# Altium footprint library SamacSys.PcbLib: 11 footprints
Each footprint in its own frame and in the unit in brackets; x right, y up, seen from the top. Pads: shape width x height; smd on the part's side, far side on the other; paste and mask are expansions set on the pad; w line width, h text height; cw(c..) or ccw(c..) is an arc to the next point about the centre after c.
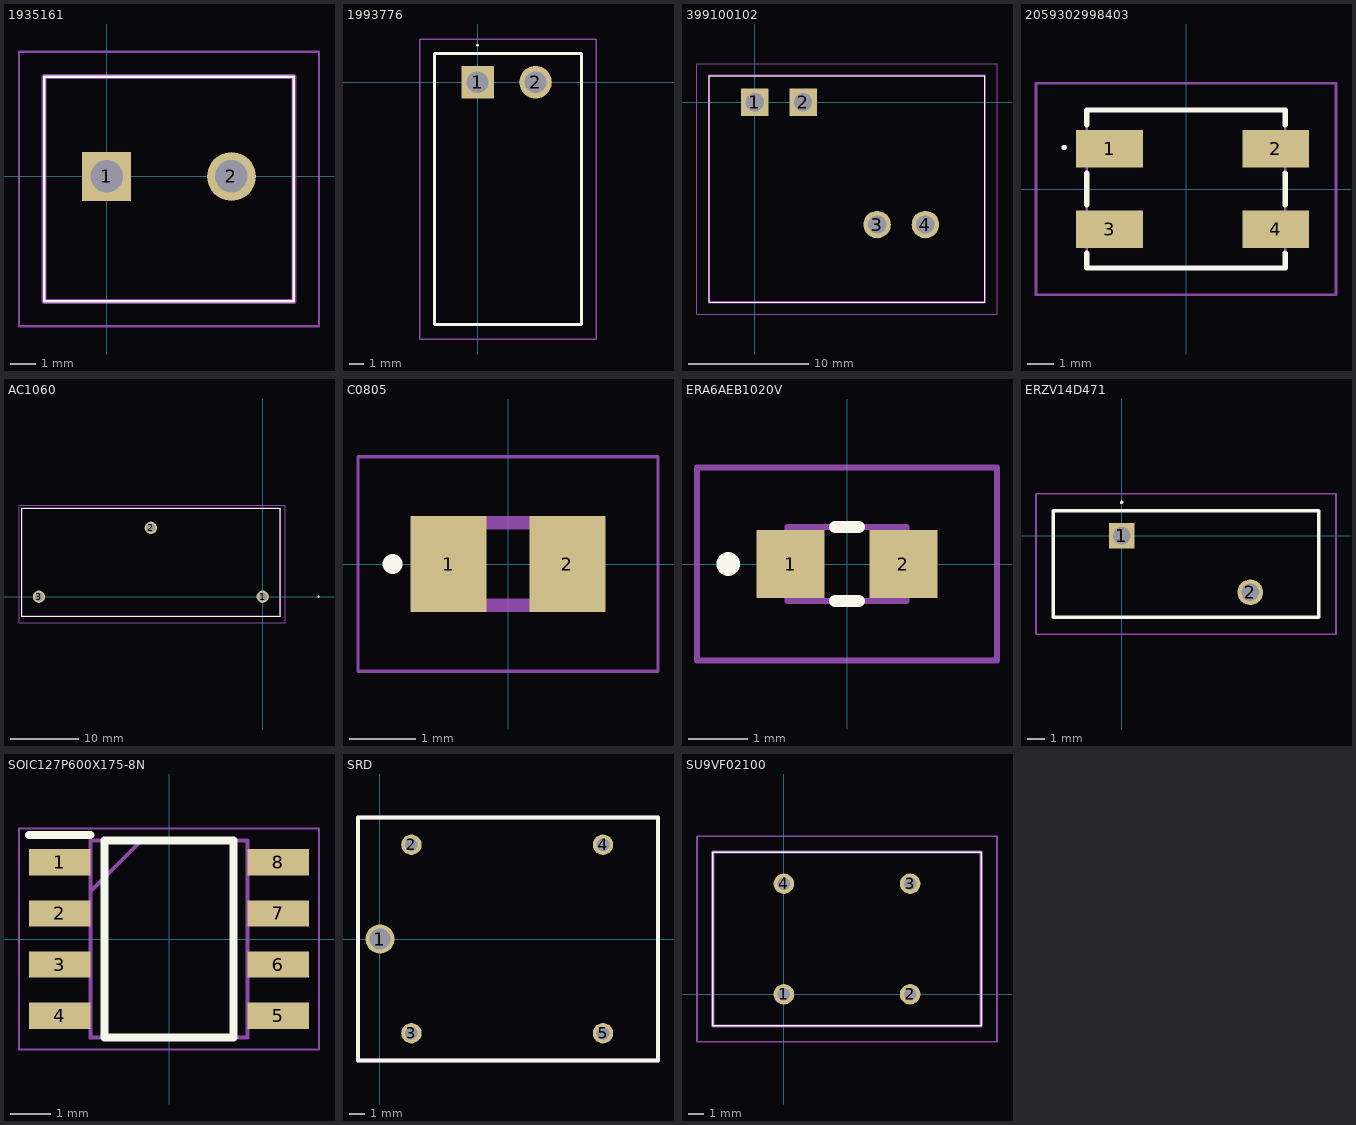
[diagram p0: the footprints below, top view; thin cyan lines are the x and y axes]

## 1935161 [mm]
pads (2):
  rect 1.95x1.95 hole 1.3: 1(0,0)
  round 1.95 hole 1.3: 2(5,0)
Top Overlay:
  lines w0.1: -2.5,-5 7.5,-5 7.5,4 -2.5,4 -2.5,-5
Mechanical 13:
  lines w0.2: -2.5,-5 7.5,-5 7.5,4 -2.5,4 -2.5,-5
Mechanical 15:
  lines w0.1: -3.5,-6 8.5,-6 8.5,5 -3.5,5 -3.5,-6
3D body "1935161.stp": height 12.22, standoff -2.68, extent -2.519,-4.997 8.051,4.003

## 1993776 [mm]
pads (2):
  rect 2.25x2.25 hole 1.5: 1(0,0)
  round 2.25 hole 1.5: 2(4,0)
Top Overlay:
  lines w0.1: 0,2.5 ccw(c0,2.55) 0,2.6 ccw(c0,2.55) 0,2.5
  lines w0.2: -2.98,-16.72 7.18,-16.72 7.18,1.98 -2.98,1.98 -2.98,-16.72
Mechanical 13:
  lines w0.1: -2.98,-16.72 7.18,-16.72 7.18,1.98 -2.98,1.98 -2.98,-16.72
Mechanical 15:
  lines w0.1: -3.98,-17.72 8.18,-17.72 8.18,2.98 -3.98,2.98 -3.98,-17.72
3D body "1993776.stp": height 30.83, standoff -4.92, extent -3.828,-16.723 7.188,1.978

## 399100102 [mm]
pads (4):
  rect 2.28x2.28 hole 1.52: 1(0,0) 2(4.01,0)
  round 2.28 hole 1.52: 3(10.16,-10.16) 4(14.17,-10.16)
Top Overlay:
  lines w0.1: -3.795,-16.61 -3.795,2.19 19.115,2.19 19.115,-16.61 -3.795,-16.61
Mechanical 13:
  lines w0.2: -3.795,-16.61 -3.795,2.19 19.115,2.19 19.115,-16.61 -3.795,-16.61
Mechanical 15:
  lines w0.1: -4.795,-17.61 -4.795,3.19 20.115,3.19 20.115,-17.61 -4.795,-17.61
3D body "39910-0102.stp": height 29.67, standoff -4.11, extent -3.862,-16.608 17.982,2.188

## 2059302998403 [mm]
pads (4):
  rect 2.5x1.4 smd: 1(-2.85,1.5) 2(3.35,1.5) 3(-2.85,-1.5) 4(3.35,-1.5)
Top Overlay:
  lines w0.1: -4.55,1.5 cw(c-4.55,1.55) -4.55,1.6 cw(c-4.55,1.55) -4.55,1.5
  lines w0.2: -3.7,-2.4 -3.7,-2.95 3.7,-2.95 3.7,-2.4 ; -3.7,-0.6 -3.7,0.6 ; -3.7,2.4 -3.7,2.95 3.7,2.95 3.7,2.4 ; 3.7,-0.6 3.7,0.6
Mechanical 13:
  lines w0.1: -3.7,-2.95 -3.7,2.95 3.7,2.95 3.7,-2.95 -3.7,-2.95
Mechanical 15:
  lines w0.1: -5.6,-3.95 -5.6,3.95 5.6,3.95 5.6,-3.95 -5.6,-3.95
3D body "2059-302_998-403.stp": height 2.7, standoff 0, extent -3.92,-2.95 3.93,2.95

## AC1060 [mm]
pads (3):
  round 1.824 hole 1.216: 1(0,0) 2(-16.5,10.16) 3(-33,0)
Top Overlay:
  lines w0.1: -35.55,-2.85 -35.55,13.05 2.55,13.05 2.55,-2.85 -35.55,-2.85
  lines w0.2: 8.2,0 cw(c8.25,0) 8.3,0 ; 8.2,0 ccw(c8.25,0) 8.3,0 ; 8.2,0 cw(c8.25,0) 8.3,0
Mechanical 13:
  lines w0.2: -35.55,-2.85 -35.55,13.05 2.55,13.05 2.55,-2.85 -35.55,-2.85
Mechanical 15:
  lines w0.1: -35.941,-3.81 -35.941,13.462 3.304,13.462 3.304,9.575 3.304,0.625 3.304,-3.81 -35.941,-3.81
3D body "Part1.STEP": height 38.09, standoff -5.99, extent -35.433,-3.454 2.667,12.446

## C0805 [mm]
pads (2):
  rect 1.15x1.45 smd: 1(-0.9,0) 2(0.9,0)
Top Overlay:
  circle w0.2: c-1.75,0 r0.05
Mechanical 13:
  lines w0.2: -1,-0.625 -1,0.625 1,0.625 1,-0.625 -1,-0.625
Mechanical 15:
  lines w0.05: -2.275,-1.625 -2.275,1.625 2.275,1.625 2.275,-1.625 -2.275,-1.625
3D body "C0805C183G4HACTU.stp": height 0.98, standoff 0, extent -1.15,-0.78 1.15,0.77

## ERA6AEB1020V [mm]
pads (2):
  rect 1.15x1.15 smd: 1(-0.95,0) 2(0.95,0)
Top Overlay:
  lines w0.2: -0.2,-0.625 0.2,-0.625 ; -0.2,0.625 0.2,0.625 ; -2,-0.1 ccw(c-2,0) -2,0.1 ccw(c-2,0) -2,-0.1
Mechanical 13:
  lines w0.1: -1,-0.625 -1,0.625 1,0.625 1,-0.625 -1,-0.625
Mechanical 15:
  lines w0.1: -2.525,-1.625 -2.525,1.625 2.525,1.625 2.525,-1.625 -2.525,-1.625
3D body "ERA-6AED102V.stp": height 0.5, standoff 0, extent -1,-0.625 1,0.625

## ERZV14D471 [mm]
pads (2):
  rect 1.5x1.5 hole 1: 1(0,0)
  round 1.5 hole 1: 2(7.5,-3.3)
Top Overlay:
  lines w0.1: 0,1.9 ccw(c0,1.95) 0,2 ccw(c0,1.95) 0,1.9
  lines w0.2: -4,-4.75 -4,1.45 11.5,1.45 11.5,-4.75 -4,-4.75
Mechanical 13:
  lines w0.1: -4,-4.75 -4,1.45 11.5,1.45 11.5,-4.75 -4,-4.75
Mechanical 15:
  lines w0.1: -5,-5.75 -5,2.45 12.5,2.45 12.5,-5.75 -5,-5.75
3D body "ERZ-V14D471.stp": height 18.6, standoff -5, extent -4,-4.75 11.5,1.45

## SOIC127P600X175-8N [mm]
pads (8):
  rect 1.525x0.65 smd: 1(-2.712,1.905) 2(-2.712,0.635) 3(-2.712,-0.635) 4(-2.712,-1.905) 5(2.712,-1.905) 6(2.712,-0.635) 7(2.712,0.635) 8(2.712,1.905)
Top Overlay:
  lines w0.2: -3.475,2.58 -1.95,2.58 ; -1.6,-2.45 1.6,-2.45 1.6,2.45 -1.6,2.45 -1.6,-2.45
Mechanical 13:
  lines w0.1: -1.95,1.18 -0.68,2.45 ; -1.95,-2.45 1.95,-2.45 1.95,2.45 -1.95,2.45 -1.95,-2.45
Mechanical 15:
  lines w0.05: -3.725,-2.75 3.725,-2.75 3.725,2.75 -3.725,2.75 -3.725,-2.75
3D body "NE555DR.stp": height 1.75, standoff 0, extent -3,-2.45 3,2.45

## SRD [mm]
pads (5):
  round 1.84 hole 1.34: 1(0,0)
  round 1.3 hole 0.8: 2(2,6) 3(2,-6) 4(14.2,6) 5(14.2,-6)
Top Overlay:
  lines w0.254: -1.4,-7.75 -1.4,7.75 17.7,7.75 17.7,-7.75 -1.4,-7.75
Mechanical 13:
  lines w0.254: -1.4,-7.75 -1.4,7.75 17.7,7.75 17.7,-7.75 -1.4,-7.75
3D body "SRD-05VDC-SL-C.stp": height 15.04, standoff -4.46, extent -1.35,-7.5 17.65,7.5

## SU9VF02100 [mm]
pads (4):
  round 1.3 hole 0.8: 1(0,0) 2(8,0) 3(8,7) 4(0,7)
Top Overlay:
  lines w0.1: -4.5,-2 -4.5,9 12.5,9 12.5,-2 -4.5,-2
Mechanical 13:
  lines w0.2: -4.5,-2 -4.5,9 12.5,9 12.5,-2 -4.5,-2
Mechanical 15:
  lines w0.1: -5.5,-3 -5.5,10 13.5,10 13.5,-3 -5.5,-3
3D body "SU9VF-02100.stp": height 16.91, standoff -4.59, extent -4.504,-2 12.496,9